# Altium footprint library USB4500031A.PcbLib: 1 footprints
Each footprint in its own frame and in the unit in brackets; x right, y up, seen from the top. Pads: shape width x height; smd on the part's side, far side on the other; paste and mask are expansions set on the pad; w line width, h text height; cw(c..) or ccw(c..) is an arc to the next point about the centre after c.
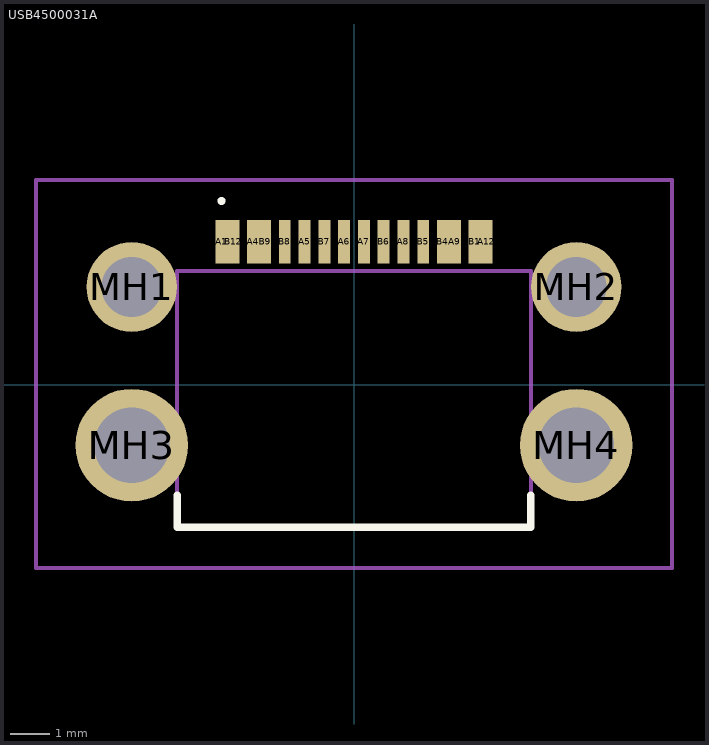
[diagram p0: the footprint, top view; thin cyan lines are the x and y axes]

## USB4500031A [mm]
pads (20):
  rect 0.3x1.1 smd: A1(-3.35,3.625) A4(-2.55,3.625) A5(-1.25,3.625) A6(-0.25,3.625) A7(0.25,3.625) A8(1.25,3.625) A9(2.55,3.625) A12(3.35,3.625) B1(3.05,3.625) B4(2.25,3.625) B5(1.75,3.625) B6(0.75,3.625) B7(-0.75,3.625) B8(-1.75,3.625) B9(-2.25,3.625) B12(-3.05,3.625)
  round 2.28 hole 1.52: MH1(-5.62,2.475) MH2(5.62,2.475)
  round 2.85 hole 1.9: MH3(-5.62,-1.525) MH4(5.62,-1.525)
Top Overlay:
  lines w0.1: -3.35,4.6 -3.35,4.6 ; -3.35,4.6 ccw(c-3.35,4.65) -3.35,4.7 ; -3.35,4.6 cw(c-3.35,4.65) -3.35,4.7 ; -3.35,4.7 -3.35,4.7
  lines w0.2: -4.47,-2.8 -4.47,-3.6 4.47,-3.6 4.47,-2.8
Mechanical 15:
  lines w0.1: -4.47,-3.625 4.47,-3.625 4.47,2.875 -4.47,2.875 -4.47,-3.625
Mechanical 20:
  lines w0.1: -8.045,-4.625 8.045,-4.625 8.045,5.175 -8.045,5.175 -8.045,-4.625